# EAGLE library part FH12A-10S-0.5SH(55) (library mylib)
0.5mm pitch ribbon connector SMD mount
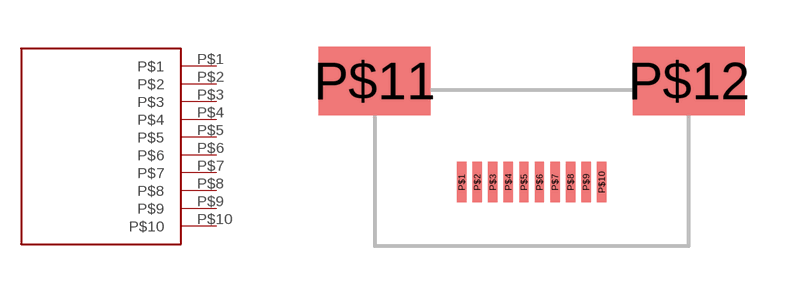
[diagram p2: symbol with the pads of FH12A-10S-0.5SH(55); footprint FH12A-10S-0.5SH(55)]

Designator prefix -

## FH12A-10S-0.5SH(55)  [FH12A-10S-0.5SH(55)]
P$1  P$1
P$2  P$2
P$3  P$3
P$4  P$4
P$5  P$5
P$6  P$6
P$7  P$7
P$8  P$8
P$9  P$9
P$10  P$10

## Footprint FH12A-10S-0.5SH(55) (pad centres in mm)
smd 0.3 x 1.3: P$1 -2.25,0; P$2 -1.75,0; P$3 -1.25,0; P$4 -0.75,0; P$5 -0.25,0; P$6 0.25,0; P$7 0.75,0; P$8 1.25,0; P$9 1.75,0; P$10 2.25,0
smd 3.6 x 2.2: P$11 -5.05,3.25; P$12 5.05,3.25